# Altium footprint library Miscellaneous.PcbLib: 71 footprints (part 3 of 5)
Each footprint in its own frame and in the unit in brackets; x right, y up, seen from the top. Pads: shape width x height; smd on the part's side, far side on the other; paste and mask are expansions set on the pad; w line width, h text height; cw(c..) or ccw(c..) is an arc to the next point about the centre after c.
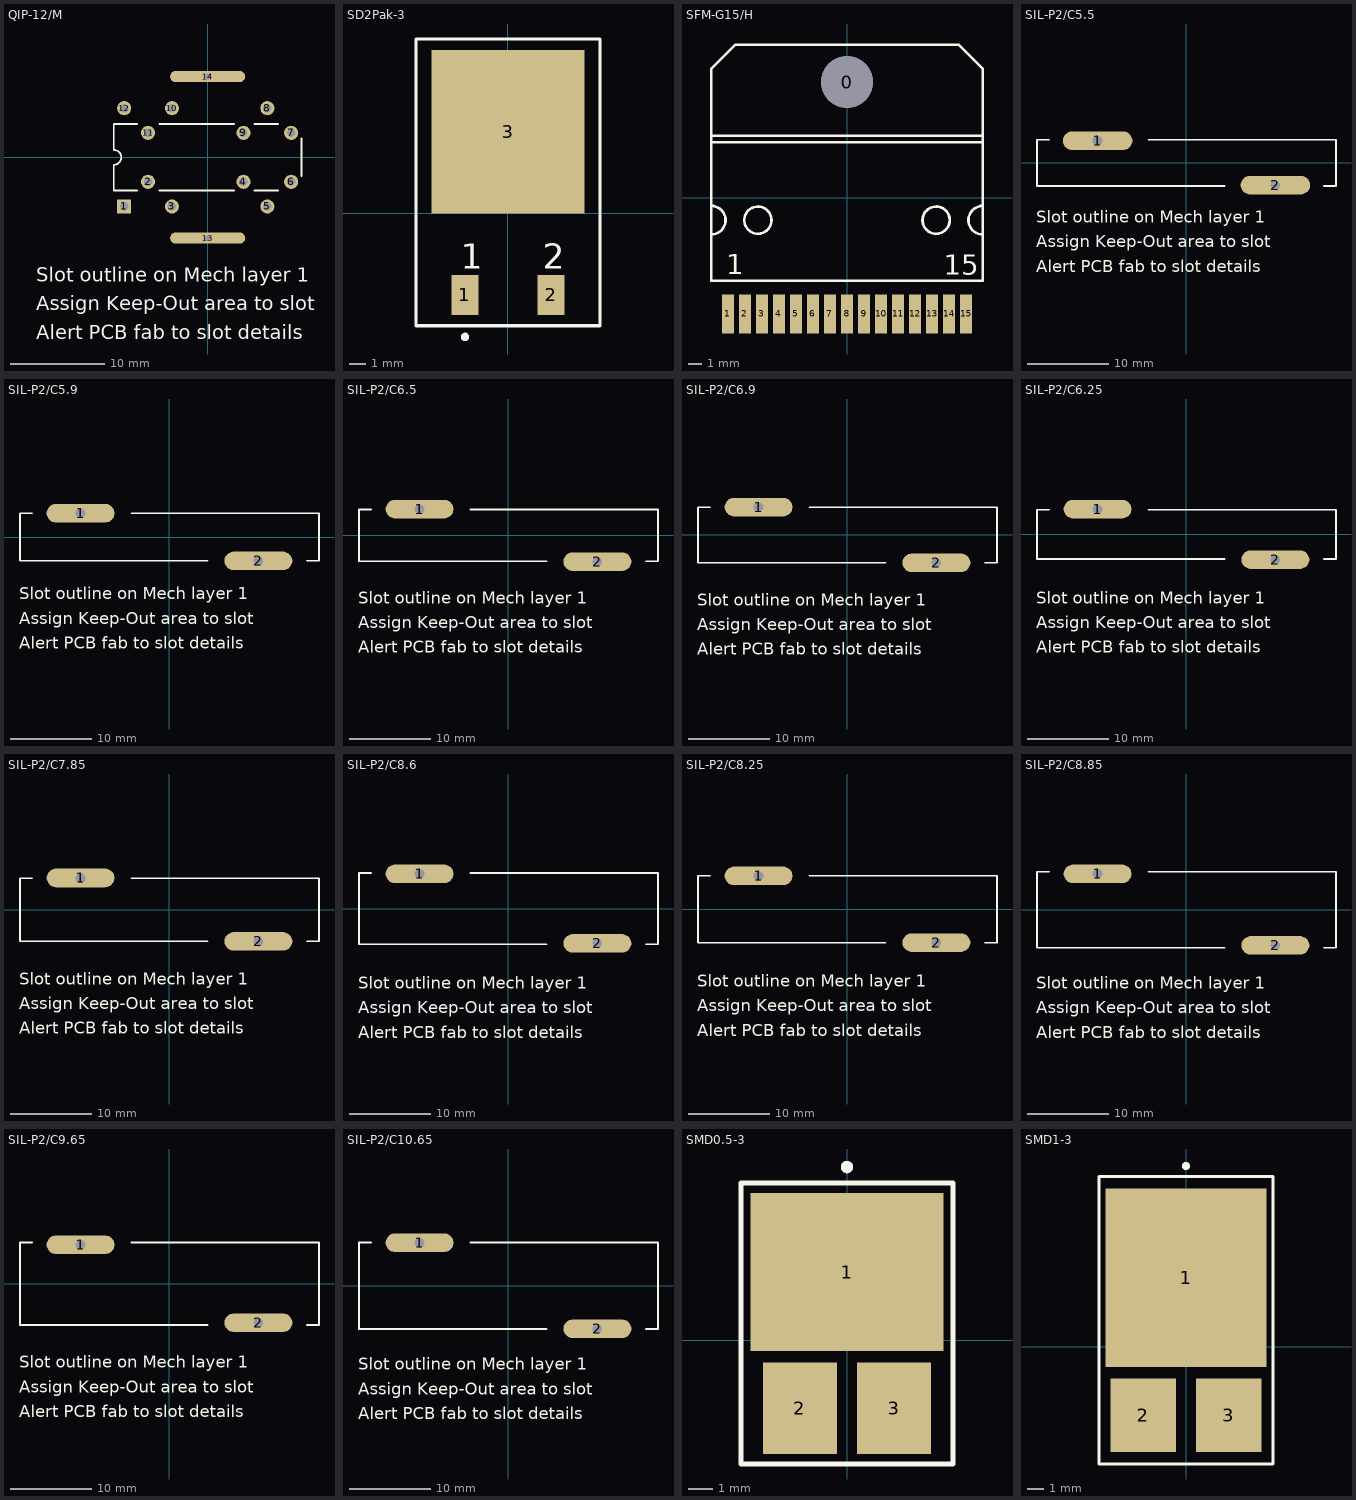
[diagram p2: the footprints below, top view; thin cyan lines are the x and y axes]

## QIP-12/M [mm] "QUIP; 12 Leads, in two Staggered Rows, plus 2 Heatsink tabs"
height 5.8
pads (14):
  rect 1.5x1.5 hole 0.9: 1(-8.89,-5.23)
  round 1.5 hole 0.9: 2(-6.35,-2.605) 3(-3.81,-5.23) 4(3.81,-2.605) 5(6.35,-5.23) 6(8.89,-2.605) 7(8.89,2.605) 8(6.35,5.23) 9(3.81,2.605) 10(-3.81,5.23) 11(-6.35,2.605) 12(-8.89,5.23)
  oval 8x1.2 hole 0.6: 13(0,-8.6) 14(0,8.6)
Top Overlay:
  lines w0.2: -7.5,-3.55 -10,-3.55 -10,-0.8 ccw(c-10,0) -10,0.8 -10,3.55 -7.5,3.55 ; -5.15,-3.55 2.8,-3.55 ; -5.15,3.55 2.8,3.55 ; 5,-3.55 7.5,-3.55 ; 5,3.55 7.5,3.55 ; 10,-2 10,2
  text "Slot outline on Mech layer 1" at -18.24,-13.25 h1.5
  text "Assign Keep-Out area to slot" at -18.24,-16.298 h1.5
  text "Alert PCB fab to slot details" at -18.24,-19.346 h1.5
Mechanical 1:
  lines w0.2: -3.3,-8.9 cw(c-3.3,-8.6) -3.3,-8.3 3.3,-8.3 cw(c3.3,-8.6) 3.3,-8.9 -3.3,-8.9 ; -3.3,8.3 cw(c-3.3,8.6) -3.3,8.9 3.3,8.9 cw(c3.3,8.6) 3.3,8.3 -3.3,8.3

## SD2Pak-3 [mm] "D2-PAK; 3 Leads (1 Cropped); Body 15.2 (inc. leads) x 10.9 mm (LxW max)"
height 4
pads (3):
  rect 1.61x2.37 smd: 1(-2.55,-4.837) 2(2.55,-4.837)
  rect 9.05x9.68 smd: 3(0,4.838)
Top Overlay:
  circle w0.25: c-2.55,-7.322 r0.125
  lines w0.2: -5.45,-6.672 -5.45,10.328 5.45,10.328 5.45,-6.672 -5.45,-6.672
  text "1" at -2.8,-3.277 h1.5
  text "2" at 2.05,-3.277 h1.5

## SFM-G15/H [mm] "TO, SM, Horizontal, Heatsink Mounted; 15 Leads; Pitch 1.27 mm"
height 4.62
pads (16):
  round 3.86 hole 3.86: 0(0,8.66)
  rect 0.9x2.9 smd: 1(-8.89,-8.66) 2(-7.62,-8.66) 3(-6.35,-8.66) 4(-5.08,-8.66) 5(-3.81,-8.66) 6(-2.54,-8.66) 7(-1.27,-8.66) 8(0,-8.66) 9(1.27,-8.66) 10(2.54,-8.66) 11(3.81,-8.66) 12(5.08,-8.66) 13(6.35,-8.66) 14(7.62,-8.66) 15(8.89,-8.66)
Top Overlay:
  circle w0.2: c-6.656,-1.656 r1.016
  circle w0.2: c6.656,-1.656 r1.016
  lines w0.2: -10.135,-2.722 ccw(c-10.135,-1.656) -10.135,-0.59 ; -10.135,4.17 10.135,4.17 ; -10.135,4.64 10.135,4.64 ; 10.13,9.66 8.34,11.45 -8.34,11.45 -10.13,9.66 -10.135,9.66 -10.135,-6.18 10.135,-6.18 10.135,9.66 ; 10.135,-2.722 cw(c10.135,-1.656) 10.135,-0.59
  text "1" at -9.012,-5.701 h1.5
  text "15" at 7.223,-5.741 h1.5

## SIL-P2/C5.5 [mm] "MOV; 2 Terminals; Body 37 x 5.7 x 44.5 mm (LxWxH)"
height 44.5
pads (2):
  oval 8.6x2.3 hole 1.2: 1(-11,2.75) 2(11,-2.75)
Top Overlay:
  lines w0.2: -17,2.85 -18.5,2.85 -18.5,-2.85 4.7,-2.85 ; -4.7,2.85 18.5,2.85 18.5,-2.85 17,-2.85
  text "Alert PCB fab to slot details" at -18.62,-13.506 h1.5
  text "Assign Keep-Out area to slot" at -18.62,-10.458 h1.5
  text "Slot outline on Mech layer 1" at -18.62,-7.41 h1.5
Mechanical 1:
  lines w0.2: -14.05,2.15 cw(c-14.05,2.75) -14.05,3.35 -7.95,3.35 cw(c-7.95,2.75) -7.95,2.15 -14.05,2.15 ; 7.95,-3.35 cw(c7.95,-2.75) 7.95,-2.15 14.05,-2.15 cw(c14.05,-2.75) 14.05,-3.35 7.95,-3.35

## SIL-P2/C5.9 [mm] "MOV; 2 Terminals; Body 37 x 5.9 x 44.5 mm (LxWxH)"
height 44.5
pads (2):
  oval 8.4x2.3 hole 1.2: 1(-11,2.95) 2(11,-2.95)
Top Overlay:
  lines w0.2: -17,2.95 -18.5,2.95 -18.5,-2.95 4.7,-2.95 ; -4.7,2.95 18.5,2.95 18.5,-2.95 17,-2.95
  text "Alert PCB fab to slot details" at -18.62,-13.814 h1.5
  text "Assign Keep-Out area to slot" at -18.62,-10.766 h1.5
  text "Slot outline on Mech layer 1" at -18.62,-7.718 h1.5
Mechanical 1:
  lines w0.2: -14.05,2.35 cw(c-14.05,2.95) -14.05,3.55 -7.95,3.55 cw(c-7.95,2.95) -7.95,2.35 -14.05,2.35 ; 7.95,-3.55 cw(c7.95,-2.95) 7.95,-2.35 14.05,-2.35 cw(c14.05,-2.95) 14.05,-3.55 7.95,-3.55

## SIL-P2/C6.5 [mm] "MOV; 2 Terminals; Body 37 x 6.4 x 44.5 mm (LxWxH)"
height 44.5
pads (2):
  oval 8.4x2.3 hole 1.2: 1(-11,3.25) 2(11,-3.25)
Top Overlay:
  lines w0.2: -17,3.2 -18.5,3.2 -18.5,-3.2 4.7,-3.2 ; -4.7,3.2 18.5,3.2 18.5,-3.2 17,-3.2
  text "Slot outline on Mech layer 1" at -18.62,-8.434 h1.5
  text "Assign Keep-Out area to slot" at -18.62,-11.482 h1.5
  text "Alert PCB fab to slot details" at -18.62,-14.53 h1.5
Mechanical 1:
  lines w0.2: -14.05,2.65 cw(c-14.05,3.25) -14.05,3.85 -7.95,3.85 cw(c-7.95,3.25) -7.95,2.65 -14.05,2.65 ; 7.95,-3.85 cw(c7.95,-3.25) 7.95,-2.65 14.05,-2.65 cw(c14.05,-3.25) 14.05,-3.85 7.95,-3.85

## SIL-P2/C6.9 [mm] "MOV; 2 Terminals; Body 37 x 6.9 x 44.5 mm (LxWxH)"
height 44.5
pads (2):
  oval 8.4x2.3 hole 1.2: 1(-11,3.45) 2(11,-3.45)
Top Overlay:
  lines w0.2: -17,3.45 -18.5,3.45 -18.5,-3.45 4.7,-3.45 ; -4.7,3.45 18.5,3.45 18.5,-3.45 17,-3.45
  text "Alert PCB fab to slot details" at -18.62,-14.838 h1.5
  text "Assign Keep-Out area to slot" at -18.62,-11.79 h1.5
  text "Slot outline on Mech layer 1" at -18.62,-8.742 h1.5
Mechanical 1:
  lines w0.2: -14.05,2.85 cw(c-14.05,3.45) -14.05,4.05 -7.95,4.05 cw(c-7.95,3.45) -7.95,2.85 -14.05,2.85 ; 7.95,-4.05 cw(c7.95,-3.45) 7.95,-2.85 14.05,-2.85 cw(c14.05,-3.45) 14.05,-4.05 7.95,-4.05

## SIL-P2/C6.25 [mm] "MOV; 2 Terminals; Body 37 x 6.1 x 44.5 mm (LxWxH)"
height 44.5
pads (2):
  oval 8.4x2.3 hole 1.2: 1(-11,3.125) 2(11,-3.125)
Top Overlay:
  lines w0.2: -17,3.05 -18.5,3.05 -18.5,-3.05 4.7,-3.05 ; -4.7,3.05 18.5,3.05 18.5,-3.05 17,-3.05
  text "Slot outline on Mech layer 1" at -18.62,-8.559 h1.5
  text "Assign Keep-Out area to slot" at -18.62,-11.607 h1.5
  text "Alert PCB fab to slot details" at -18.62,-14.655 h1.5
Mechanical 1:
  lines w0.2: -14.05,2.525 cw(c-14.05,3.125) -14.05,3.725 -7.95,3.725 cw(c-7.95,3.125) -7.95,2.525 -14.05,2.525 ; 7.95,-3.725 cw(c7.95,-3.125) 7.95,-2.525 14.05,-2.525 cw(c14.05,-3.125) 14.05,-3.725 7.95,-3.725

## SIL-P2/C7.85 [mm] "MOV; 2 Terminals; Body 37 x 7.8 x 44.5 mm (LxWxH)"
height 44.5
pads (2):
  oval 8.4x2.3 hole 1.2: 1(-11,3.925) 2(11,-3.925)
Top Overlay:
  lines w0.2: -17,3.9 -18.5,3.9 -18.5,-3.9 4.7,-3.9 ; -4.7,3.9 18.5,3.9 18.5,-3.9 17,-3.9
  text "Slot outline on Mech layer 1" at -18.62,-9.283 h1.5
  text "Assign Keep-Out area to slot" at -18.62,-12.331 h1.5
  text "Alert PCB fab to slot details" at -18.62,-15.379 h1.5
Mechanical 1:
  lines w0.2: -14.05,3.325 cw(c-14.05,3.925) -14.05,4.525 -7.95,4.525 cw(c-7.95,3.925) -7.95,3.325 -14.05,3.325 ; 7.95,-4.525 cw(c7.95,-3.925) 7.95,-3.325 14.05,-3.325 cw(c14.05,-3.925) 14.05,-4.525 7.95,-4.525

## SIL-P2/C8.6 [mm] "MOV; 2 Terminals; Body 37 x 8.8 x 44.5 mm (LxWxH)"
height 44.5
pads (2):
  oval 8.4x2.3 hole 1.2: 1(-11,4.3) 2(11,-4.3)
Top Overlay:
  lines w0.2: -17,4.4 -18.5,4.4 -18.5,-4.4 4.7,-4.4 ; -4.7,4.4 18.5,4.4 18.5,-4.4 17,-4.4
  text "Alert PCB fab to slot details" at -18.62,-16.02 h1.5
  text "Assign Keep-Out area to slot" at -18.62,-12.972 h1.5
  text "Slot outline on Mech layer 1" at -18.62,-9.924 h1.5
Mechanical 1:
  lines w0.2: -14.05,3.7 cw(c-14.05,4.3) -14.05,4.9 -7.95,4.9 cw(c-7.95,4.3) -7.95,3.7 -14.05,3.7 ; 7.95,-4.9 cw(c7.95,-4.3) 7.95,-3.7 14.05,-3.7 cw(c14.05,-4.3) 14.05,-4.9 7.95,-4.9

## SIL-P2/C8.25 [mm] "MOV; 2 Terminals; Body 37 x 8.3 x 44.5 mm (LxWxH)"
height 44.5
pads (2):
  oval 8.4x2.3 hole 1.2: 1(-11,4.125) 2(11,-4.125)
Top Overlay:
  lines w0.2: -17,4.15 -18.5,4.15 -18.5,-4.15 4.7,-4.15 ; -4.7,4.15 18.5,4.15 18.5,-4.15 17,-4.15
  text "Slot outline on Mech layer 1" at -18.62,-9.591 h1.5
  text "Assign Keep-Out area to slot" at -18.62,-12.639 h1.5
  text "Alert PCB fab to slot details" at -18.62,-15.687 h1.5
Mechanical 1:
  lines w0.2: -14.05,3.525 cw(c-14.05,4.125) -14.05,4.725 -7.95,4.725 cw(c-7.95,4.125) -7.95,3.525 -14.05,3.525 ; 7.95,-4.725 cw(c7.95,-4.125) 7.95,-3.525 14.05,-3.525 cw(c14.05,-4.125) 14.05,-4.725 7.95,-4.725

## SIL-P2/C8.85 [mm] "MOV; 2 Terminals; Body 37 x 9.4 x 44.5 mm (LxWxH)"
height 44.5
pads (2):
  oval 8.4x2.3 hole 1.2: 1(-11,4.425) 2(11,-4.425)
Top Overlay:
  lines w0.2: -17,4.7 -18.5,4.7 -18.5,-4.7 4.7,-4.7 ; -4.7,4.7 18.5,4.7 18.5,-4.7 17,-4.7
  text "Slot outline on Mech layer 1" at -18.62,-9.799 h1.5
  text "Assign Keep-Out area to slot" at -18.62,-12.847 h1.5
  text "Alert PCB fab to slot details" at -18.62,-15.895 h1.5
Mechanical 1:
  lines w0.2: -14.05,3.825 cw(c-14.05,4.425) -14.05,5.025 -7.95,5.025 cw(c-7.95,4.425) -7.95,3.825 -14.05,3.825 ; 7.95,-5.025 cw(c7.95,-4.425) 7.95,-3.825 14.05,-3.825 cw(c14.05,-4.425) 14.05,-5.025 7.95,-5.025

## SIL-P2/C9.65 [mm] "MOV; 2 Terminals; Body 37 x 10.2 x 44.5 mm (LxWxH)"
height 44.5
pads (2):
  oval 8.4x2.3 hole 1.2: 1(-11,4.825) 2(11,-4.825)
Top Overlay:
  lines w0.2: -17,5.1 -18.5,5.1 -18.5,-5.1 4.7,-5.1 ; -4.7,5.1 18.5,5.1 18.5,-5.1 17,-5.1
  text "Slot outline on Mech layer 1" at -18.62,-10.415 h1.5
  text "Assign Keep-Out area to slot" at -18.62,-13.463 h1.5
  text "Alert PCB fab to slot details" at -18.62,-16.511 h1.5
Mechanical 1:
  lines w0.2: -14.05,4.225 cw(c-14.05,4.825) -14.05,5.425 -7.95,5.425 cw(c-7.95,4.825) -7.95,4.225 -14.05,4.225 ; 7.95,-5.425 cw(c7.95,-4.825) 7.95,-4.225 14.05,-4.225 cw(c14.05,-4.825) 14.05,-5.425 7.95,-5.425

## SIL-P2/C10.65 [mm] "MOV; 2 Terminals; Body 37 x 10.7 x 44.5 mm (LxWxH)"
height 44.5
pads (2):
  oval 8.4x2.3 hole 1.2: 1(-11,5.325) 2(11,-5.325)
Top Overlay:
  lines w0.2: -17,5.35 -18.5,5.35 -18.5,-5.35 4.7,-5.35 ; -4.7,5.35 18.5,5.35 18.5,-5.35 17,-5.35
  text "Alert PCB fab to slot details" at -18.62,-16.519 h1.5
  text "Assign Keep-Out area to slot" at -18.62,-13.471 h1.5
  text "Slot outline on Mech layer 1" at -18.62,-10.423 h1.5
Mechanical 1:
  lines w0.2: -14.05,4.725 cw(c-14.05,5.325) -14.05,5.925 -7.95,5.925 cw(c-7.95,5.325) -7.95,4.725 -14.05,4.725 ; 7.95,-5.925 cw(c7.95,-5.325) 7.95,-4.725 14.05,-4.725 cw(c14.05,-5.325) 14.05,-5.925 7.95,-5.925

## SMD0.5-3 [mm] "SM; 3 Leadless Terminals; Body 10.28 x 7.64 x 3.06 mm (LxWxH)"
height 3.06
pads (3):
  rect 7.8x6.4 smd: 1(0,2.76)
  rect 3x3.7 smd: 2(-1.905,-2.76) 3(1.905,-2.76)
Top Overlay:
  circle w0.25: c0,7.01 r0.125
  lines w0.2: -4.3,-5.01 4.3,-5.01 4.3,6.36 -4.3,6.36 -4.3,-5.01

## SMD1-3 [mm] "SM; 3 Leadless Terminals; Body 16 x 11.55 x 3.58 mm (LxWxH)"
height 3.58
pads (3):
  rect 10.1x11.2 smd: 1(0,4.305)
  rect 4.1x4.6 smd: 2(-2.667,-4.305) 3(2.667,-4.305)
Top Overlay:
  circle w0.25: c0,11.3 r0.125
  lines w0.2: -5.45,-7.35 5.45,-7.35 5.45,10.65 -5.45,10.65 -5.45,-7.35